# EAGLE library part CD74HC238PWR (library CD74HC238PWR)
Texas Instruments CD74HC238PWR, Decoder, Demultiplexer, 1-of-8, Non-Inverting, 2 6 V, 16-Pin TSSOP Source: Datasheet <http://www.ti.com/lit/gpn/cd74hc238>
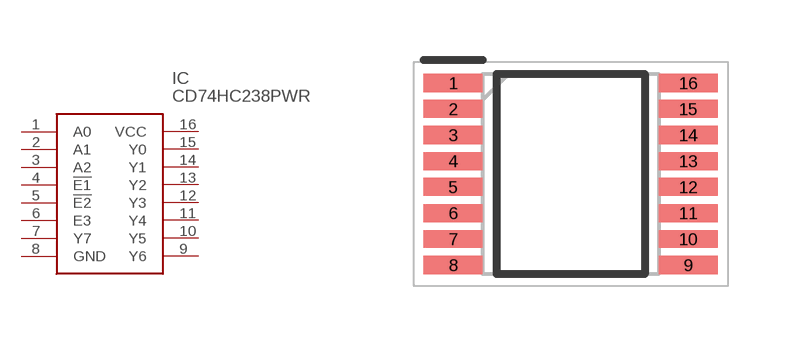
[diagram p0: symbol with the pads of SOP65P640X120-16N; footprint SOP65P640X120-16N]

Designator prefix IC

## CD74HC238PWR (Arrow_Part_Number: CD74HC238PWR; Arrow_Price-Stock: https://www.arrow.com/en/products/cd74hc238pwr/texas-instruments; Description: Texas Instruments CD74HC238PWR, Decoder, Demultiplexer, 1-of-8, Non-Inverting, 2 6 V, 16-Pin TSSOP; Height: 1.2mm; Manufacturer_Name: Texas Instruments; Manufacturer_Part_Number: CD74HC238PWR; Mouser_Part_Number: 595-CD74HC238PWR; Mouser_Price-Stock: https://www.mouser.co.uk/ProductDetail/Texas-Instruments/CD74HC238PWR?qs=p6YqzpSxLIxxe92%252Bdbvp%252Bg%3D%3D)  [SOP65P640X120-16N]
1  A0
2  A1
3  A2
4  !E1
5  !E2
6  E3
7  Y7
8  GND
9  Y6
10  Y5
11  Y4
12  Y3
13  Y2
14  Y1
15  Y0
16  VCC

## Footprint SOP65P640X120-16N (pad centres in mm)
PW0016A
smd 1.475 x 0.45: 1 -2.938,2.275; 2 -2.938,1.625; 3 -2.938,0.975; 4 -2.938,0.325; 5 -2.938,-0.325; 6 -2.938,-0.975; 7 -2.938,-1.625; 8 -2.938,-2.275; 9 2.938,-2.275; 10 2.938,-1.625; 11 2.938,-0.975; 12 2.938,-0.325; 13 2.938,0.325; 14 2.938,0.975; 15 2.938,1.625; 16 2.938,2.275